# Altium schematic symbol library aiskylab-06IC-02Memory.SchLib: 21 symbols (part 2 of 4)
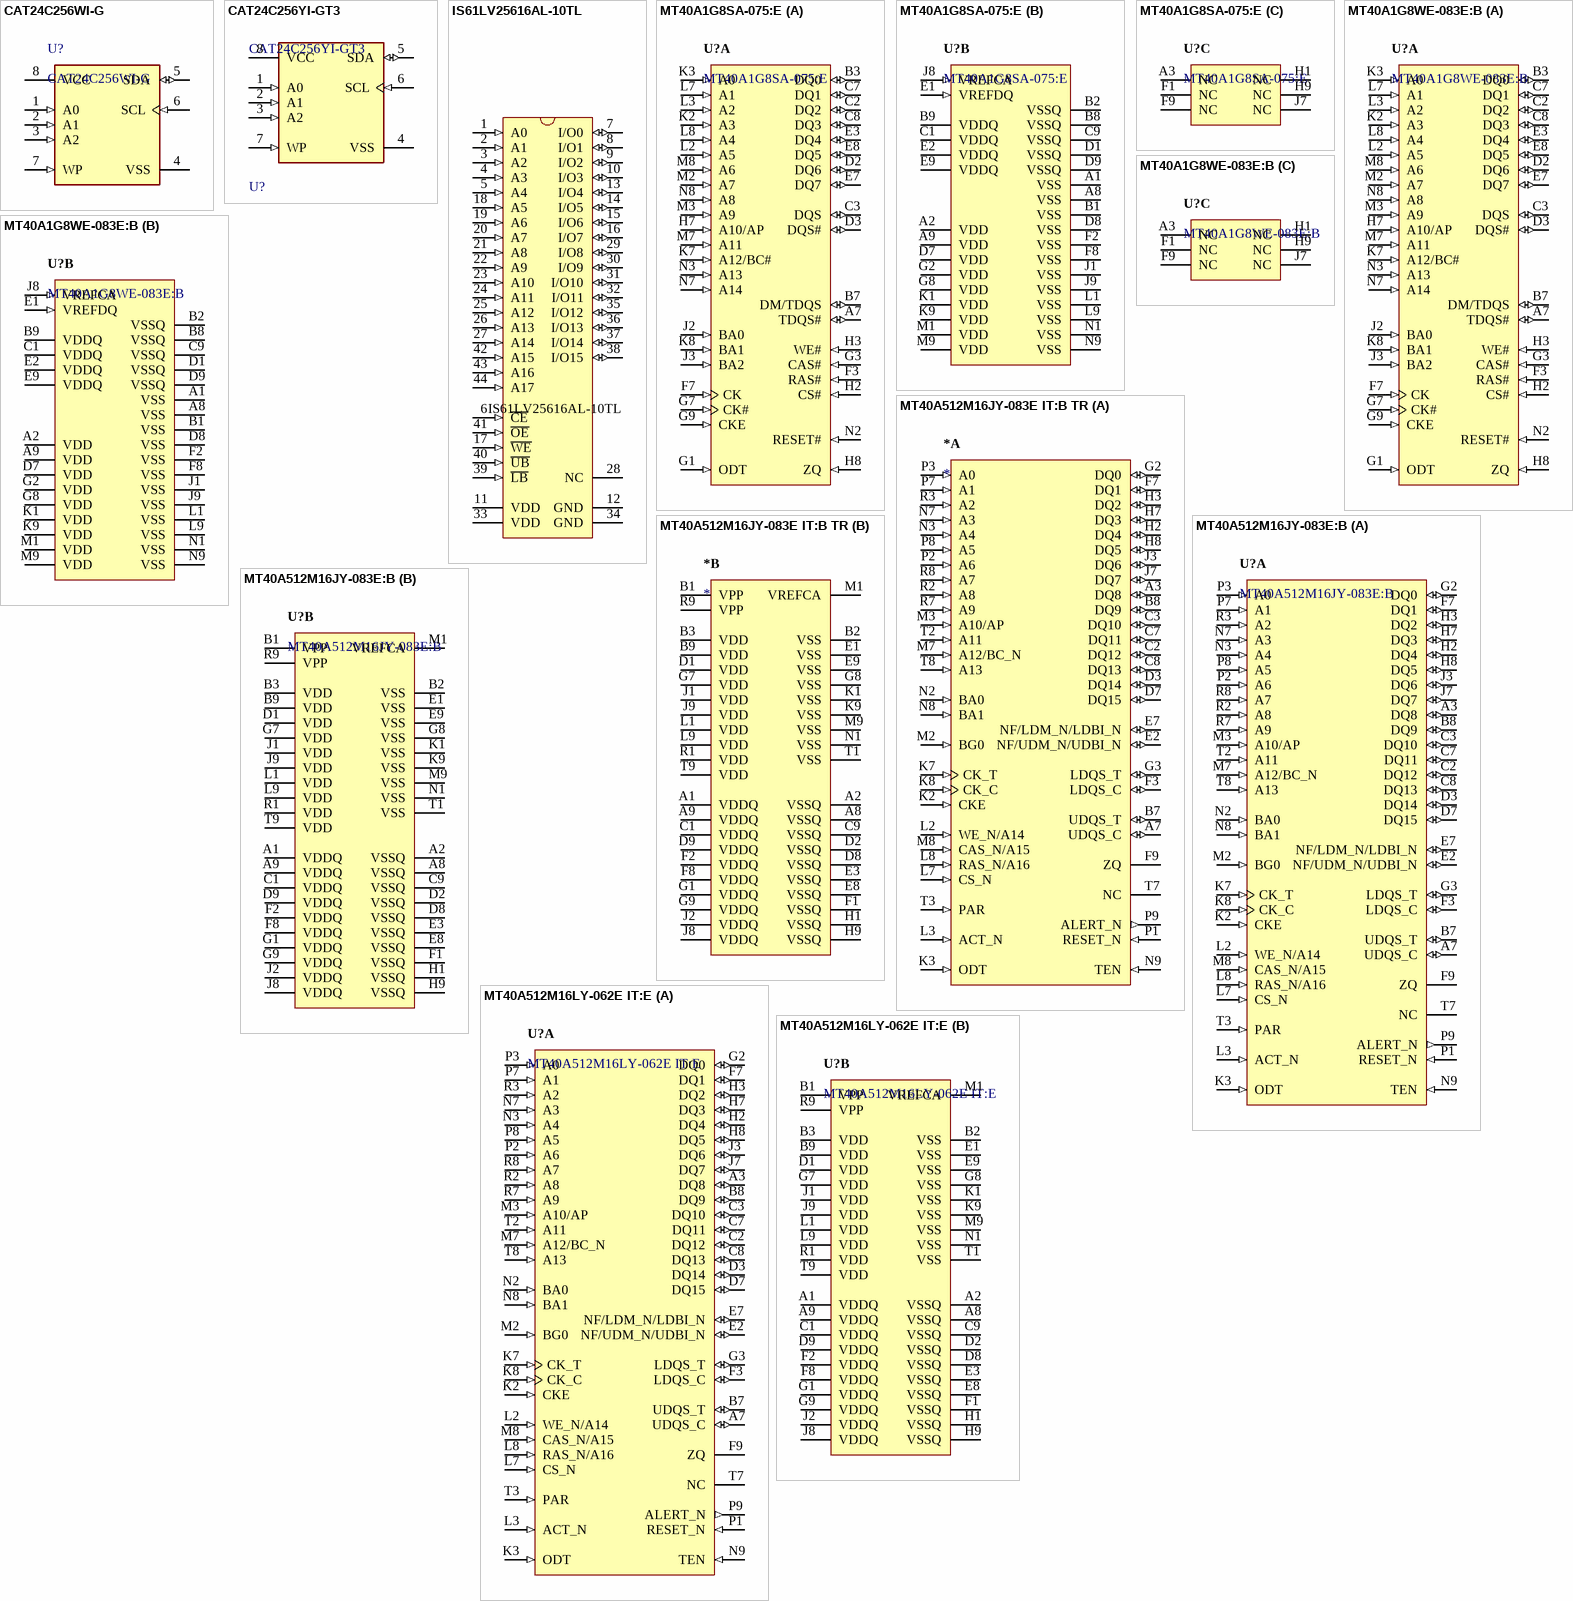
[diagram p2: symbols CAT24C256WI-G to MT40A512M16LY-062E IT:E]

## MT40A512M16JY-083E:B
designator U?
DRAM Chip DDR4 SDRAM 8G-Bit 512Mx16 1.2V 96-Pin F-BGA; Manufacturer: Micron Technology; Density: 8Gb; Data Bus Width: 16b; Address Bus Width: 17b; Access Time: 18ns; Supplier 1: Arrow Electronics; Manufacturer Part Number: MT40A512M16JY-083E:B; RoHS: Yes; Category: RAM; Mount: Surface Mount; Case/Package: BGA; Number of Pins: 96; Contact Plating: Copper,Tin,Silver; Min Operating Temperature: 0°C; Max Operating Temperature: 95°C; Operating Supply Voltage: 1.2V; RoHS Compliant: Yes; ComponentLink1URL: https://www.micron.com/~/media/documents/products/data-sheet/dram/ddr4/8gb_ddr4_sdram.pdf?src-supplier=Avnet+Asia; ComponentLink1Description: https://www.micron.com/~/media/documents/products/data-sheet/dram/ddr4/8gb_ddr4_sdram.pdf?src-supplier=Avnet+Asia; Supplier Part Number 1: MT40A512M16JY-083E:B; Supplier: JLC; SupplierPartNumber: C139548; Price: 57.042; ComponentLink2Description: Datasheet; ComponentLink2URL: https://atta.szlcsc.com/upload/public/pdf/source/20171030/C139548_15093665016811068217.pdf
part A pins: A3 DQ8 (io) "Data input/output: Bidirectional data bus. DQ represents DQ[3:0], DQ[7:0], and DQ[15:0] for the x4, x8, and x16 configurations, respectively. If write CRC is enabled via mode register, the write CRC code is added at the end (See Datasheet)", A7 UDQS_C (io) "Data strobe: Output with READ data, input with WRITE data. Edge-aligned with READ data, centered-aligned with WRITE data. For the x16, DQSL corresponds to the data on DQ[7:0]; DQSU corresponds to the data on DQ[15:8]. For (See Datasheet)", B7 UDQS_T (io) "Data strobe: Output with READ data, input with WRITE data. Edge-aligned with READ data, centered-aligned with WRITE data. For the x16, DQSL corresponds to the data on DQ[7:0]; DQSU corresponds to the data on DQ[15:8]. For (See Datasheet)", B8 DQ9 (io) "Data input/output: Bidirectional data bus. DQ represents DQ[3:0], DQ[7:0], and DQ[15:0] for the x4, x8, and x16 configurations, respectively. If write CRC is enabled via mode register, the write CRC code is added at the end (See Datasheet)", C2 DQ12 (io) "Data input/output: Bidirectional data bus. DQ represents DQ[3:0], DQ[7:0], and DQ[15:0] for the x4, x8, and x16 configurations, respectively. If write CRC is enabled via mode register, the write CRC code is added at the end (See Datasheet)", C3 DQ10 (io) "Data input/output: Bidirectional data bus. DQ represents DQ[3:0], DQ[7:0], and DQ[15:0] for the x4, x8, and x16 configurations, respectively. If write CRC is enabled via mode register, the write CRC code is added at the end (See Datasheet)", C7 DQ11 (io) "Data input/output: Bidirectional data bus. DQ represents DQ[3:0], DQ[7:0], and DQ[15:0] for the x4, x8, and x16 configurations, respectively. If write CRC is enabled via mode register, the write CRC code is added at the end (See Datasheet)", C8 DQ13 (io) "Data input/output: Bidirectional data bus. DQ represents DQ[3:0], DQ[7:0], and DQ[15:0] for the x4, x8, and x16 configurations, respectively. If write CRC is enabled via mode register, the write CRC code is added at the end (See Datasheet)", D3 DQ14 (io) "Data input/output: Bidirectional data bus. DQ represents DQ[3:0], DQ[7:0], and DQ[15:0] for the x4, x8, and x16 configurations, respectively. If write CRC is enabled via mode register, the write CRC code is added at the end (See Datasheet)", D7 DQ15 (io) "Data input/output: Bidirectional data bus. DQ represents DQ[3:0], DQ[7:0], and DQ[15:0] for the x4, x8, and x16 configurations, respectively. If write CRC is enabled via mode register, the write CRC code is added at the end (See Datasheet)", E2 NF/UDM_N/UDBI_N (io), E7 NF/LDM_N/LDBI_N (io), F3 LDQS_C (io) "Data strobe: Output with READ data, input with WRITE data. Edge-aligned with READ data, centered-aligned with WRITE data. For the x16, DQSL corresponds to the data on DQ[7:0]; DQSU corresponds to the data on DQ[15:8]. For (See Datasheet)", F7 DQ1 (io) "Data input/output: Bidirectional data bus. DQ represents DQ[3:0], DQ[7:0], and DQ[15:0] for the x4, x8, and x16 configurations, respectively. If write CRC is enabled via mode register, the write CRC code is added at the end (See Datasheet)", F9 ZQ "Reference ball for ZQ calibration: This ball is tied to an external 240ohm resistor(RZQ), which is tied to VSSQ.", G2 DQ0 (io) "Data input/output: Bidirectional data bus. DQ represents DQ[3:0], DQ[7:0], and DQ[15:0] for the x4, x8, and x16 configurations, respectively. If write CRC is enabled via mode register, the write CRC code is added at the end (See Datasheet)", G3 LDQS_T (io) "Data strobe: Output with READ data, input with WRITE data. Edge-aligned with READ data, centered-aligned with WRITE data. For the x16, DQSL corresponds to the data on DQ[7:0]; DQSU corresponds to the data on DQ[15:8]. For (See Datasheet)", H2 DQ4 (io) "Data input/output: Bidirectional data bus. DQ represents DQ[3:0], DQ[7:0], and DQ[15:0] for the x4, x8, and x16 configurations, respectively. If write CRC is enabled via mode register, the write CRC code is added at the end (See Datasheet)", H3 DQ2 (io) "Data input/output: Bidirectional data bus. DQ represents DQ[3:0], DQ[7:0], and DQ[15:0] for the x4, x8, and x16 configurations, respectively. If write CRC is enabled via mode register, the write CRC code is added at the end (See Datasheet)", H7 DQ3 (io) "Data input/output: Bidirectional data bus. DQ represents DQ[3:0], DQ[7:0], and DQ[15:0] for the x4, x8, and x16 configurations, respectively. If write CRC is enabled via mode register, the write CRC code is added at the end (See Datasheet)", H8 DQ5 (io) "Data input/output: Bidirectional data bus. DQ represents DQ[3:0], DQ[7:0], and DQ[15:0] for the x4, x8, and x16 configurations, respectively. If write CRC is enabled via mode register, the write CRC code is added at the end (See Datasheet)", J3 DQ6 (io) "Data input/output: Bidirectional data bus. DQ represents DQ[3:0], DQ[7:0], and DQ[15:0] for the x4, x8, and x16 configurations, respectively. If write CRC is enabled via mode register, the write CRC code is added at the end (See Datasheet)", J7 DQ7 (io) "Data input/output: Bidirectional data bus. DQ represents DQ[3:0], DQ[7:0], and DQ[15:0] for the x4, x8, and x16 configurations, respectively. If write CRC is enabled via mode register, the write CRC code is added at the end (See Datasheet)", K2 CKE (in) "Clock enable: CKE HIGH activates and CKE LOW deactivates the internal clock signals, device input buffers, and output drivers. Taking CKE LOW provides PRECHARGE POWER-DOWN and SELF REFRESH operations (all banks idle), or (See Datasheet)", K3 ODT (in) "On-die termination: ODT (registered HIGH) enables termination resistance internal to the DDR4 SDRAM. When enabled, ODT (RTT) is applied only to each DQ, DQS_t, DQS_c, DM_n/DBI_n/TDQS_t, and TDQS_c signal for the x4 and x8 (See Datasheet)", K7 CK_T (in) "Clock: Differential clock input. All address, command, and control input signals are sampled on the crossing of the positive edge of CK_t and the negative edge of CK_c.", K8 CK_C (in) "Clock: Differential clock input. All address, command, and control input signals are sampled on the crossing of the positive edge of CK_t and the negative edge of CK_c.", L2 WE_N/A14 (in), L3 ACT_N (in) "Command input: ACT_n indicates an ACTIVATE command. When ACT_n (along with CS_n) is LOW, the input pins RAS_n/A16, CAS_n/A15, and WE_n/A14 are treated as row address inputs for the ACTIVATE command. When ACT_n is HIGH (along (See Datasheet)", L7 CS_N (in) "Chip select: All commands are masked when CS_n is registered HIGH. CS_n provides for external rank selection on systems with multiple ranks. CS_n is considered part of the command code.", L8 RAS_N/A16 (in), M2 BG0 (in) "Bank group address input: Define the bank group to which a REFRESH, ACTIVATE, READ, WRITE, or PRECHARGE command is being applied. Also determines which mode register is to be accessed during a MODE REGISTER SET command. (See Datasheet)", M3 A10/AP (in), M7 A12/BC_N (in), M8 CAS_N/A15 (in), N2 BA0 (in) "Bank address input: Define the bank (within a bank group) to which an ACTIVATE, READ, WRITE, or PRECHARGE command is being applied. Also determines which mode register is to be accessed during a MODE REGISTER SET command.", N3 A4 (in) "Address input: Provide the row address for ACTIVATE commands and the column address for READ/WRITE commands to select one location out of the memory array in the respective bank. (A10/AP, A12/BC_n, WE_n/A14, CAS_n/A15, (See Datasheet)", N7 A3 (in) "Address input: Provide the row address for ACTIVATE commands and the column address for READ/WRITE commands to select one location out of the memory array in the respective bank. (A10/AP, A12/BC_n, WE_n/A14, CAS_n/A15, (See Datasheet)", N8 BA1 (in) "Bank address input: Define the bank (within a bank group) to which an ACTIVATE, READ, WRITE, or PRECHARGE command is being applied. Also determines which mode register is to be accessed during a MODE REGISTER SET command.", N9 TEN (in) "Connectivity test mode: TEN is active when HIGH and inactive when LOW. TEN must be LOW during normal operation. TEN is a CMOS rail-to-rail signal with DC HIGH and LOW at 80% and 20% of VDD (960mV for DC HIGH and 240mV for DC (See Datasheet)", P1 RESET_N (in) "Active LOW asynchronous reset: Reset is active when RESET_n is LOW, and inactive when RESET_n is HIGH. RESET_n must be HIGH during normal operation. RESET_n is a CMOS rail-to-rail signal with DC HIGH and LOW at 80% and 20% (See Datasheet)", P2 A6 (in) "Address input: Provide the row address for ACTIVATE commands and the column address for READ/WRITE commands to select one location out of the memory array in the respective bank. (A10/AP, A12/BC_n, WE_n/A14, CAS_n/A15, (See Datasheet)", P3 A0 (in) "Address input: Provide the row address for ACTIVATE commands and the column address for READ/WRITE commands to select one location out of the memory array in the respective bank. (A10/AP, A12/BC_n, WE_n/A14, CAS_n/A15, (See Datasheet)", P7 A1 (in) "Address input: Provide the row address for ACTIVATE commands and the column address for READ/WRITE commands to select one location out of the memory array in the respective bank. (A10/AP, A12/BC_n, WE_n/A14, CAS_n/A15, (See Datasheet)", P8 A5 (in) "Address input: Provide the row address for ACTIVATE commands and the column address for READ/WRITE commands to select one location out of the memory array in the respective bank. (A10/AP, A12/BC_n, WE_n/A14, CAS_n/A15, (See Datasheet)", P9 ALERT_N (out) "Alert output: This signal allows the DRAM to indicate to the system's memory controller that a specific alert or event has occurred. Alerts will include the command/address parity error and the CRC data error when either of (See Datasheet)", R2 A8 (in) "Address input: Provide the row address for ACTIVATE commands and the column address for READ/WRITE commands to select one location out of the memory array in the respective bank. (A10/AP, A12/BC_n, WE_n/A14, CAS_n/A15, (See Datasheet)", R3 A2 (in) "Address input: Provide the row address for ACTIVATE commands and the column address for READ/WRITE commands to select one location out of the memory array in the respective bank. (A10/AP, A12/BC_n, WE_n/A14, CAS_n/A15, (See Datasheet)", R7 A9 (in) "Address input: Provide the row address for ACTIVATE commands and the column address for READ/WRITE commands to select one location out of the memory array in the respective bank. (A10/AP, A12/BC_n, WE_n/A14, CAS_n/A15, (See Datasheet)", R8 A7 (in) "Address input: Provide the row address for ACTIVATE commands and the column address for READ/WRITE commands to select one location out of the memory array in the respective bank. (A10/AP, A12/BC_n, WE_n/A14, CAS_n/A15, (See Datasheet)", T2 A11 (in) "Address input: Provide the row address for ACTIVATE commands and the column address for READ/WRITE commands to select one location out of the memory array in the respective bank. (A10/AP, A12/BC_n, WE_n/A14, CAS_n/A15, (See Datasheet)", T3 PAR (in) "Parity for command and address: This function can be enabled or disabled via the mode register. When enabled, the parity signal covers all command and address inputs, including ACT_n, RAS_n/A16, CAS_n/A15, WE_n/A14, A[17:0], (See Datasheet)", T7 NC "No connect: No internal electrical connection is present.", T8 A13 (in) "Address input: Provide the row address for ACTIVATE commands and the column address for READ/WRITE commands to select one location out of the memory array in the respective bank. (A10/AP, A12/BC_n, WE_n/A14, CAS_n/A15, (See Datasheet)"
part B pins: A1 VDDQ (power) "DQ power supply: 1.2V +/-0.060V.", A2 VSSQ (power) "DQ ground.", A8 VSSQ (power) "DQ ground.", A9 VDDQ (power) "DQ power supply: 1.2V +/-0.060V.", B1 VPP (power) "DRAM activating power supply: 2.5V -0.125V/+0.250V.", B2 VSS (power) "Ground.", B3 VDD (power) "Power supply: 1.2V +/-0.060V.", B9 VDD (power) "Power supply: 1.2V +/-0.060V.", C1 VDDQ (power) "DQ power supply: 1.2V +/-0.060V.", C9 VSSQ (power) "DQ ground.", D1 VDD (power) "Power supply: 1.2V +/-0.060V.", D2 VSSQ (power) "DQ ground.", D8 VSSQ (power) "DQ ground.", D9 VDDQ (power) "DQ power supply: 1.2V +/-0.060V.", E1 VSS (power) "Ground.", E3 VSSQ (power) "DQ ground.", E8 VSSQ (power) "DQ ground.", E9 VSS (power) "Ground.", F1 VSSQ (power) "DQ ground.", F2 VDDQ (power) "DQ power supply: 1.2V +/-0.060V.", F8 VDDQ (power) "DQ power supply: 1.2V +/-0.060V.", G1 VDDQ (power) "DQ power supply: 1.2V +/-0.060V.", G7 VDD (power) "Power supply: 1.2V +/-0.060V.", G8 VSS (power) "Ground.", G9 VDDQ (power) "DQ power supply: 1.2V +/-0.060V.", H1 VSSQ (power) "DQ ground.", H9 VSSQ (power) "DQ ground.", J1 VDD (power) "Power supply: 1.2V +/-0.060V.", J2 VDDQ (power) "DQ power supply: 1.2V +/-0.060V.", J8 VDDQ (power) "DQ power supply: 1.2V +/-0.060V.", J9 VDD (power) "Power supply: 1.2V +/-0.060V.", K1 VSS (power) "Ground.", K9 VSS (power) "Ground.", L1 VDD (power) "Power supply: 1.2V +/-0.060V.", L9 VDD (power) "Power supply: 1.2V +/-0.060V.", M1 VREFCA "Reference voltage for control, command, and address pins.", M9 VSS (power) "Ground.", N1 VSS (power) "Ground.", R1 VDD (power) "Power supply: 1.2V +/-0.060V.", R9 VPP (power) "DRAM activating power supply: 2.5V -0.125V/+0.250V.", T1 VSS (power) "Ground.", T9 VDD (power) "Power supply: 1.2V +/-0.060V."

## MT40A512M16LY-062E IT:E
designator U?
DRAM Chip DDR4 SDRAM 8Gbit 512M X 16 1.2V 96-Pin FBGA; Manufacturer: Micron Technology; Memory Type: Volatile; Memory Size: 8Gb; Frequency: 1.6GHz; Supplier 1: Avnet; Manufacturer Part Number: MT40A512M16LY-062E IT:E; RoHS: No; Stock 1: 504; Pricing 1: 1=14.97000, 10=13.78000, 25=13.50000, 50=13.45000, 100=12.06000, 250=11.70000 (USD); Min Operating Temperature: -40°C; Max Operating Temperature: 95°C; RoHS Compliant: No; ComponentLink1URL: http://www.farnell.com/datasheets/2712421.pdf?src-supplier=Farnell; ComponentLink1Description: http://www.farnell.com/datasheets/2712421.pdf?src-supplier=Farnell; ComponentLink2URL: https://www.micron.com/~/media/documents/products/data-sheet/dram/ddr4/8gb_ddr4_sdram.pdf?src-supplier=Digi-Key; ComponentLink2Description: https://www.micron.com/~/media/documents/products/data-sheet/dram/ddr4/8gb_ddr4_sdram.pdf?src-supplier=Digi-Key; Supplier Part Number 1: 80AH7988; ComponentLink3Description: Datasheet; ComponentLink3URL: https://atta.szlcsc.com/upload/public/pdf/source/20190909/C426886_5B0106D3C207821AB2C7C6D1F5168E73.pdf; Supplier: JLC; Supplier Part Number: C426886; Price: 81.97
footprint MICT-LY-96_A
part A pins: A3 DQ8 (io) "Data input/output: Bidirectional data bus. DQ represents DQ[3:0], DQ[7:0], and DQ[15:0] for the x4, x8, and x16 configurations, respectively. If write CRC is enabled via mode register, the write CRC code is added at the end (See Datasheet)", A7 UDQS_C (io) "Data strobe: Output with READ data, input with WRITE data. Edge-aligned with READ data, centered-aligned with WRITE data. For the x16, DQSL corresponds to the data on DQ[7:0]; DQSU corresponds to the data on DQ[15:8]. For (See Datasheet)", B7 UDQS_T (io) "Data strobe: Output with READ data, input with WRITE data. Edge-aligned with READ data, centered-aligned with WRITE data. For the x16, DQSL corresponds to the data on DQ[7:0]; DQSU corresponds to the data on DQ[15:8]. For (See Datasheet)", B8 DQ9 (io) "Data input/output: Bidirectional data bus. DQ represents DQ[3:0], DQ[7:0], and DQ[15:0] for the x4, x8, and x16 configurations, respectively. If write CRC is enabled via mode register, the write CRC code is added at the end (See Datasheet)", C2 DQ12 (io) "Data input/output: Bidirectional data bus. DQ represents DQ[3:0], DQ[7:0], and DQ[15:0] for the x4, x8, and x16 configurations, respectively. If write CRC is enabled via mode register, the write CRC code is added at the end (See Datasheet)", C3 DQ10 (io) "Data input/output: Bidirectional data bus. DQ represents DQ[3:0], DQ[7:0], and DQ[15:0] for the x4, x8, and x16 configurations, respectively. If write CRC is enabled via mode register, the write CRC code is added at the end (See Datasheet)", C7 DQ11 (io) "Data input/output: Bidirectional data bus. DQ represents DQ[3:0], DQ[7:0], and DQ[15:0] for the x4, x8, and x16 configurations, respectively. If write CRC is enabled via mode register, the write CRC code is added at the end (See Datasheet)", C8 DQ13 (io) "Data input/output: Bidirectional data bus. DQ represents DQ[3:0], DQ[7:0], and DQ[15:0] for the x4, x8, and x16 configurations, respectively. If write CRC is enabled via mode register, the write CRC code is added at the end (See Datasheet)", D3 DQ14 (io) "Data input/output: Bidirectional data bus. DQ represents DQ[3:0], DQ[7:0], and DQ[15:0] for the x4, x8, and x16 configurations, respectively. If write CRC is enabled via mode register, the write CRC code is added at the end (See Datasheet)", D7 DQ15 (io) "Data input/output: Bidirectional data bus. DQ represents DQ[3:0], DQ[7:0], and DQ[15:0] for the x4, x8, and x16 configurations, respectively. If write CRC is enabled via mode register, the write CRC code is added at the end (See Datasheet)", E2 NF/UDM_N/UDBI_N (io), E7 NF/LDM_N/LDBI_N (io), F3 LDQS_C (io) "Data strobe: Output with READ data, input with WRITE data. Edge-aligned with READ data, centered-aligned with WRITE data. For the x16, DQSL corresponds to the data on DQ[7:0]; DQSU corresponds to the data on DQ[15:8]. For (See Datasheet)", F7 DQ1 (io) "Data input/output: Bidirectional data bus. DQ represents DQ[3:0], DQ[7:0], and DQ[15:0] for the x4, x8, and x16 configurations, respectively. If write CRC is enabled via mode register, the write CRC code is added at the end (See Datasheet)", F9 ZQ "Reference ball for ZQ calibration: This ball is tied to an external 240ohm resistor(RZQ), which is tied to VSSQ.", G2 DQ0 (io) "Data input/output: Bidirectional data bus. DQ represents DQ[3:0], DQ[7:0], and DQ[15:0] for the x4, x8, and x16 configurations, respectively. If write CRC is enabled via mode register, the write CRC code is added at the end (See Datasheet)", G3 LDQS_T (io) "Data strobe: Output with READ data, input with WRITE data. Edge-aligned with READ data, centered-aligned with WRITE data. For the x16, DQSL corresponds to the data on DQ[7:0]; DQSU corresponds to the data on DQ[15:8]. For (See Datasheet)", H2 DQ4 (io) "Data input/output: Bidirectional data bus. DQ represents DQ[3:0], DQ[7:0], and DQ[15:0] for the x4, x8, and x16 configurations, respectively. If write CRC is enabled via mode register, the write CRC code is added at the end (See Datasheet)", H3 DQ2 (io) "Data input/output: Bidirectional data bus. DQ represents DQ[3:0], DQ[7:0], and DQ[15:0] for the x4, x8, and x16 configurations, respectively. If write CRC is enabled via mode register, the write CRC code is added at the end (See Datasheet)", H7 DQ3 (io) "Data input/output: Bidirectional data bus. DQ represents DQ[3:0], DQ[7:0], and DQ[15:0] for the x4, x8, and x16 configurations, respectively. If write CRC is enabled via mode register, the write CRC code is added at the end (See Datasheet)", H8 DQ5 (io) "Data input/output: Bidirectional data bus. DQ represents DQ[3:0], DQ[7:0], and DQ[15:0] for the x4, x8, and x16 configurations, respectively. If write CRC is enabled via mode register, the write CRC code is added at the end (See Datasheet)", J3 DQ6 (io) "Data input/output: Bidirectional data bus. DQ represents DQ[3:0], DQ[7:0], and DQ[15:0] for the x4, x8, and x16 configurations, respectively. If write CRC is enabled via mode register, the write CRC code is added at the end (See Datasheet)", J7 DQ7 (io) "Data input/output: Bidirectional data bus. DQ represents DQ[3:0], DQ[7:0], and DQ[15:0] for the x4, x8, and x16 configurations, respectively. If write CRC is enabled via mode register, the write CRC code is added at the end (See Datasheet)", K2 CKE (in) "Clock enable: CKE HIGH activates and CKE LOW deactivates the internal clock signals, device input buffers, and output drivers. Taking CKE LOW provides PRECHARGE POWER-DOWN and SELF REFRESH operations (all banks idle), or (See Datasheet)", K3 ODT (in) "On-die termination: ODT (registered HIGH) enables termination resistance internal to the DDR4 SDRAM. When enabled, ODT (RTT) is applied only to each DQ, DQS_t, DQS_c, DM_n/DBI_n/TDQS_t, and TDQS_c signal for the x4 and x8 (See Datasheet)", K7 CK_T (in) "Clock: Differential clock input. All address, command, and control input signals are sampled on the crossing of the positive edge of CK_t and the negative edge of CK_c.", K8 CK_C (in) "Clock: Differential clock input. All address, command, and control input signals are sampled on the crossing of the positive edge of CK_t and the negative edge of CK_c.", L2 WE_N/A14 (in), L3 ACT_N (in) "Command input: ACT_n indicates an ACTIVATE command. When ACT_n (along with CS_n) is LOW, the input pins RAS_n/A16, CAS_n/A15, and WE_n/A14 are treated as row address inputs for the ACTIVATE command. When ACT_n is HIGH (along (See Datasheet)", L7 CS_N (in) "Chip select: All commands are masked when CS_n is registered HIGH. CS_n provides for external rank selection on systems with multiple ranks. CS_n is considered part of the command code.", L8 RAS_N/A16 (in), M2 BG0 (in) "Bank group address input: Define the bank group to which a REFRESH, ACTIVATE, READ, WRITE, or PRECHARGE command is being applied. Also determines which mode register is to be accessed during a MODE REGISTER SET command. (See Datasheet)", M3 A10/AP (in), M7 A12/BC_N (in), M8 CAS_N/A15 (in), N2 BA0 (in) "Bank address input: Define the bank (within a bank group) to which an ACTIVATE, READ, WRITE, or PRECHARGE command is being applied. Also determines which mode register is to be accessed during a MODE REGISTER SET command.", N3 A4 (in) "Address input: Provide the row address for ACTIVATE commands and the column address for READ/WRITE commands to select one location out of the memory array in the respective bank. (A10/AP, A12/BC_n, WE_n/A14, CAS_n/A15, (See Datasheet)", N7 A3 (in) "Address input: Provide the row address for ACTIVATE commands and the column address for READ/WRITE commands to select one location out of the memory array in the respective bank. (A10/AP, A12/BC_n, WE_n/A14, CAS_n/A15, (See Datasheet)", N8 BA1 (in) "Bank address input: Define the bank (within a bank group) to which an ACTIVATE, READ, WRITE, or PRECHARGE command is being applied. Also determines which mode register is to be accessed during a MODE REGISTER SET command.", N9 TEN (in) "Connectivity test mode: TEN is active when HIGH and inactive when LOW. TEN must be LOW during normal operation. TEN is a CMOS rail-to-rail signal with DC HIGH and LOW at 80% and 20% of VDD (960mV for DC HIGH and 240mV for DC (See Datasheet)", P1 RESET_N (in) "Active LOW asynchronous reset: Reset is active when RESET_n is LOW, and inactive when RESET_n is HIGH. RESET_n must be HIGH during normal operation. RESET_n is a CMOS rail-to-rail signal with DC HIGH and LOW at 80% and 20% (See Datasheet)", P2 A6 (in) "Address input: Provide the row address for ACTIVATE commands and the column address for READ/WRITE commands to select one location out of the memory array in the respective bank. (A10/AP, A12/BC_n, WE_n/A14, CAS_n/A15, (See Datasheet)", P3 A0 (in) "Address input: Provide the row address for ACTIVATE commands and the column address for READ/WRITE commands to select one location out of the memory array in the respective bank. (A10/AP, A12/BC_n, WE_n/A14, CAS_n/A15, (See Datasheet)", P7 A1 (in) "Address input: Provide the row address for ACTIVATE commands and the column address for READ/WRITE commands to select one location out of the memory array in the respective bank. (A10/AP, A12/BC_n, WE_n/A14, CAS_n/A15, (See Datasheet)", P8 A5 (in) "Address input: Provide the row address for ACTIVATE commands and the column address for READ/WRITE commands to select one location out of the memory array in the respective bank. (A10/AP, A12/BC_n, WE_n/A14, CAS_n/A15, (See Datasheet)", P9 ALERT_N (out) "Alert output: This signal allows the DRAM to indicate to the system's memory controller that a specific alert or event has occurred. Alerts will include the command/address parity error and the CRC data error when either of (See Datasheet)", R2 A8 (in) "Address input: Provide the row address for ACTIVATE commands and the column address for READ/WRITE commands to select one location out of the memory array in the respective bank. (A10/AP, A12/BC_n, WE_n/A14, CAS_n/A15, (See Datasheet)", R3 A2 (in) "Address input: Provide the row address for ACTIVATE commands and the column address for READ/WRITE commands to select one location out of the memory array in the respective bank. (A10/AP, A12/BC_n, WE_n/A14, CAS_n/A15, (See Datasheet)", R7 A9 (in) "Address input: Provide the row address for ACTIVATE commands and the column address for READ/WRITE commands to select one location out of the memory array in the respective bank. (A10/AP, A12/BC_n, WE_n/A14, CAS_n/A15, (See Datasheet)", R8 A7 (in) "Address input: Provide the row address for ACTIVATE commands and the column address for READ/WRITE commands to select one location out of the memory array in the respective bank. (A10/AP, A12/BC_n, WE_n/A14, CAS_n/A15, (See Datasheet)", T2 A11 (in) "Address input: Provide the row address for ACTIVATE commands and the column address for READ/WRITE commands to select one location out of the memory array in the respective bank. (A10/AP, A12/BC_n, WE_n/A14, CAS_n/A15, (See Datasheet)", T3 PAR (in) "Parity for command and address: This function can be enabled or disabled via the mode register. When enabled, the parity signal covers all command and address inputs, including ACT_n, RAS_n/A16, CAS_n/A15, WE_n/A14, A[17:0], (See Datasheet)", T7 NC "No connect: No internal electrical connection is present.", T8 A13 (in) "Address input: Provide the row address for ACTIVATE commands and the column address for READ/WRITE commands to select one location out of the memory array in the respective bank. (A10/AP, A12/BC_n, WE_n/A14, CAS_n/A15, (See Datasheet)"
part B pins: A1 VDDQ (power) "DQ power supply: 1.2V +/-0.060V.", A2 VSSQ (power) "DQ ground.", A8 VSSQ (power) "DQ ground.", A9 VDDQ (power) "DQ power supply: 1.2V +/-0.060V.", B1 VPP (power) "DRAM activating power supply: 2.5V -0.125V/+0.250V.", B2 VSS (power) "Ground.", B3 VDD (power) "Power supply: 1.2V +/-0.060V.", B9 VDD (power) "Power supply: 1.2V +/-0.060V.", C1 VDDQ (power) "DQ power supply: 1.2V +/-0.060V.", C9 VSSQ (power) "DQ ground.", D1 VDD (power) "Power supply: 1.2V +/-0.060V.", D2 VSSQ (power) "DQ ground.", D8 VSSQ (power) "DQ ground.", D9 VDDQ (power) "DQ power supply: 1.2V +/-0.060V.", E1 VSS (power) "Ground.", E3 VSSQ (power) "DQ ground.", E8 VSSQ (power) "DQ ground.", E9 VSS (power) "Ground.", F1 VSSQ (power) "DQ ground.", F2 VDDQ (power) "DQ power supply: 1.2V +/-0.060V.", F8 VDDQ (power) "DQ power supply: 1.2V +/-0.060V.", G1 VDDQ (power) "DQ power supply: 1.2V +/-0.060V.", G7 VDD (power) "Power supply: 1.2V +/-0.060V.", G8 VSS (power) "Ground.", G9 VDDQ (power) "DQ power supply: 1.2V +/-0.060V.", H1 VSSQ (power) "DQ ground.", H9 VSSQ (power) "DQ ground.", J1 VDD (power) "Power supply: 1.2V +/-0.060V.", J2 VDDQ (power) "DQ power supply: 1.2V +/-0.060V.", J8 VDDQ (power) "DQ power supply: 1.2V +/-0.060V.", J9 VDD (power) "Power supply: 1.2V +/-0.060V.", K1 VSS (power) "Ground.", K9 VSS (power) "Ground.", L1 VDD (power) "Power supply: 1.2V +/-0.060V.", L9 VDD (power) "Power supply: 1.2V +/-0.060V.", M1 VREFCA "Reference voltage for control, command, and address pins.", M9 VSS (power) "Ground.", N1 VSS (power) "Ground.", R1 VDD (power) "Power supply: 1.2V +/-0.060V.", R9 VPP (power) "DRAM activating power supply: 2.5V -0.125V/+0.250V.", T1 VSS (power) "Ground.", T9 VDD (power) "Power supply: 1.2V +/-0.060V."

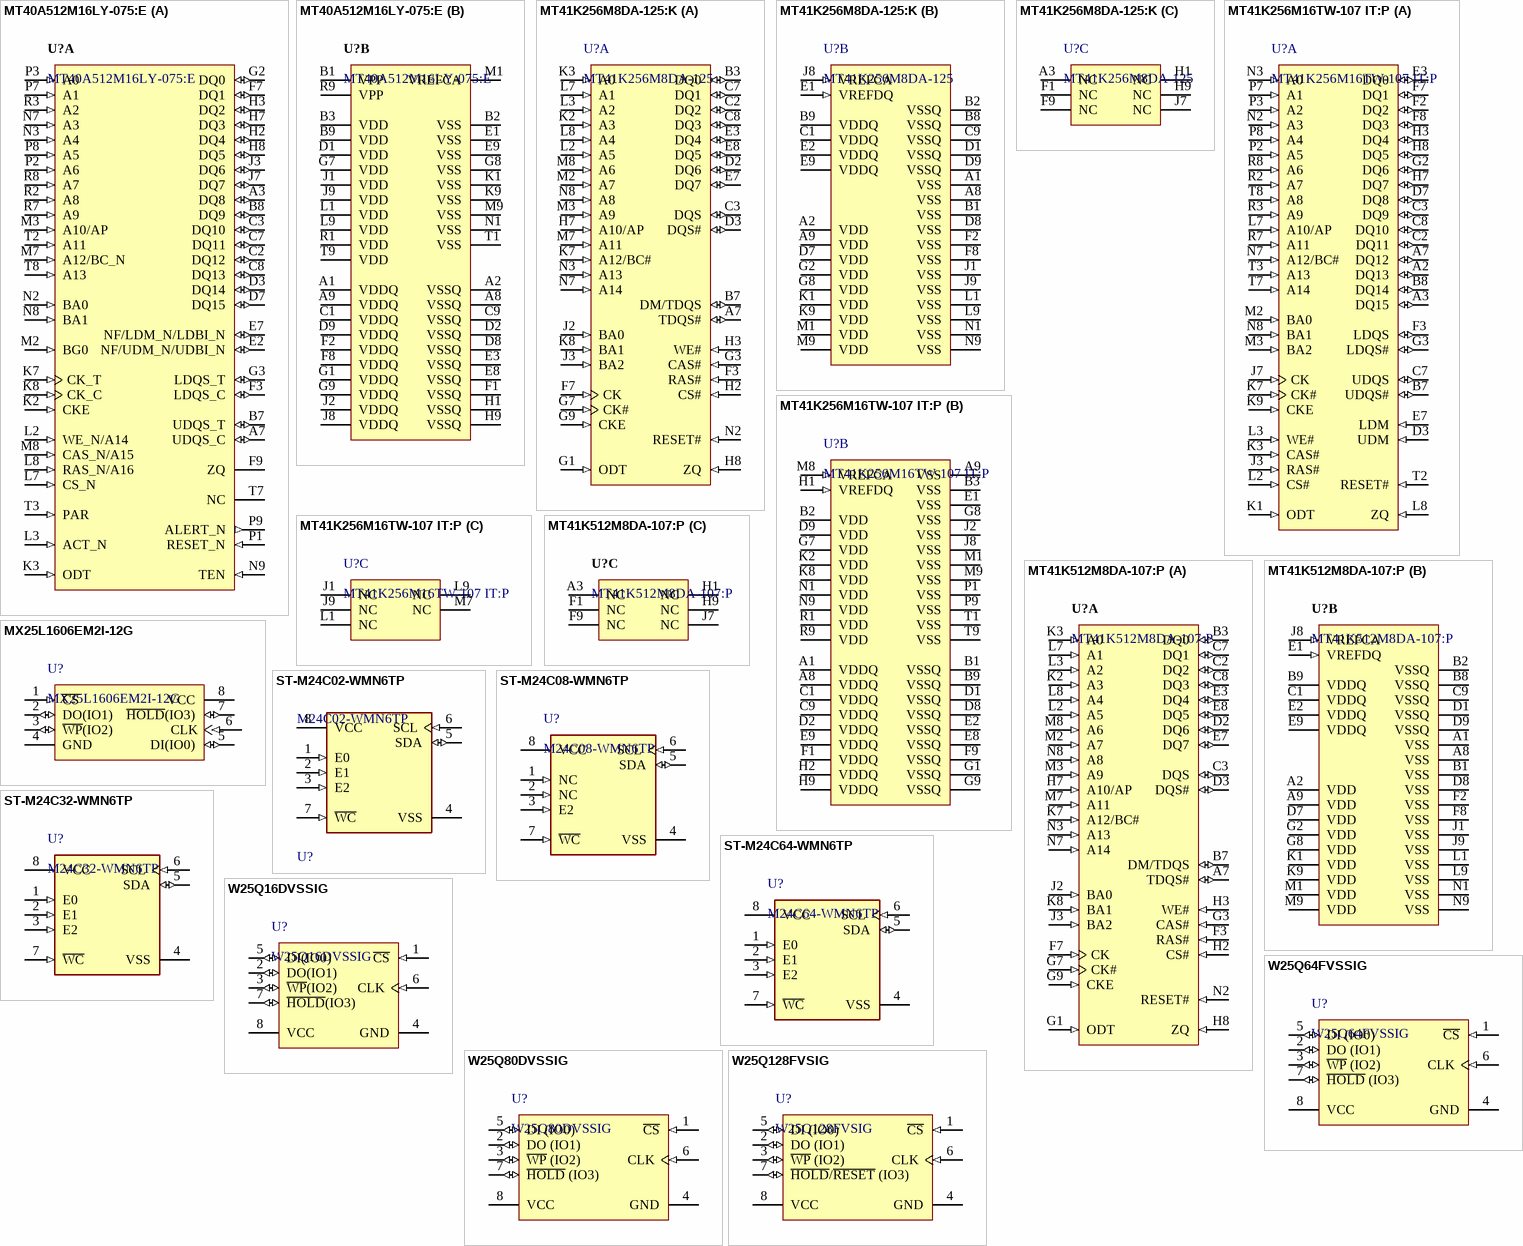
[diagram p1: symbols MT40A512M16LY-075:E to W25Q128FVSIG]

## MT40A512M16LY-075:E
designator U?
DRAM Chip DDR4 SDRAM 8Gbit 512Mx16 1.2V 96-Pin FBGA; Manufacturer: Micron Technology; Memory Type: Volatile; Memory Size: 8Gb; Frequency: 1.33GHz; Suppiler: JLC; Supplier 1: Avnet; Manufacturer Part Number: MT40A512M16LY-075:E; RoHS: Yes; Category: Memory; Stock 1: 400; Pricing 1: 1=12.40000, 10=11.42000, 25=11.18000, 50=11.14000, 100=10.00000, 250=9.70000 (USD); Min Operating Temperature: 0°C; Max Operating Temperature: 95°C; RoHS Compliant: Yes; ComponentLink1URL: https://www.micron.com/~/media/documents/products/data-sheet/dram/ddr4/8gb_ddr4_sdram.pdf?src-supplier=Digi-Key; ComponentLink1Description: https://www.micron.com/~/media/documents/products/data-sheet/dram/ddr4/8gb_ddr4_sdram.pdf?src-supplier=Digi-Key; Supplier Part Number 1: 83AH2723; SupplierPartNumber: C598779; ComponentLink2Description: Datasheet; ComponentLink2URL: https://atta.szlcsc.com/upload/public/pdf/source/20200825/C598779_D6A295F48414D4D093834D9E63006C82.pdf; Price: 43.86
footprint MICT-LY-96_A
part A pins: A3 DQ8 (io) "Data input/output: Bidirectional data bus. DQ represents DQ[3:0], DQ[7:0], and DQ[15:0] for the x4, x8, and x16 configurations, respectively. If write CRC is enabled via mode register, the write CRC code is added at the end (See Datasheet)", A7 UDQS_C (io) "Data strobe: Output with READ data, input with WRITE data. Edge-aligned with READ data, centered-aligned with WRITE data. For the x16, DQSL corresponds to the data on DQ[7:0]; DQSU corresponds to the data on DQ[15:8]. For (See Datasheet)", B7 UDQS_T (io) "Data strobe: Output with READ data, input with WRITE data. Edge-aligned with READ data, centered-aligned with WRITE data. For the x16, DQSL corresponds to the data on DQ[7:0]; DQSU corresponds to the data on DQ[15:8]. For (See Datasheet)", B8 DQ9 (io) "Data input/output: Bidirectional data bus. DQ represents DQ[3:0], DQ[7:0], and DQ[15:0] for the x4, x8, and x16 configurations, respectively. If write CRC is enabled via mode register, the write CRC code is added at the end (See Datasheet)", C2 DQ12 (io) "Data input/output: Bidirectional data bus. DQ represents DQ[3:0], DQ[7:0], and DQ[15:0] for the x4, x8, and x16 configurations, respectively. If write CRC is enabled via mode register, the write CRC code is added at the end (See Datasheet)", C3 DQ10 (io) "Data input/output: Bidirectional data bus. DQ represents DQ[3:0], DQ[7:0], and DQ[15:0] for the x4, x8, and x16 configurations, respectively. If write CRC is enabled via mode register, the write CRC code is added at the end (See Datasheet)", C7 DQ11 (io) "Data input/output: Bidirectional data bus. DQ represents DQ[3:0], DQ[7:0], and DQ[15:0] for the x4, x8, and x16 configurations, respectively. If write CRC is enabled via mode register, the write CRC code is added at the end (See Datasheet)", C8 DQ13 (io) "Data input/output: Bidirectional data bus. DQ represents DQ[3:0], DQ[7:0], and DQ[15:0] for the x4, x8, and x16 configurations, respectively. If write CRC is enabled via mode register, the write CRC code is added at the end (See Datasheet)", D3 DQ14 (io) "Data input/output: Bidirectional data bus. DQ represents DQ[3:0], DQ[7:0], and DQ[15:0] for the x4, x8, and x16 configurations, respectively. If write CRC is enabled via mode register, the write CRC code is added at the end (See Datasheet)", D7 DQ15 (io) "Data input/output: Bidirectional data bus. DQ represents DQ[3:0], DQ[7:0], and DQ[15:0] for the x4, x8, and x16 configurations, respectively. If write CRC is enabled via mode register, the write CRC code is added at the end (See Datasheet)", E2 NF/UDM_N/UDBI_N (io), E7 NF/LDM_N/LDBI_N (io), F3 LDQS_C (io) "Data strobe: Output with READ data, input with WRITE data. Edge-aligned with READ data, centered-aligned with WRITE data. For the x16, DQSL corresponds to the data on DQ[7:0]; DQSU corresponds to the data on DQ[15:8]. For (See Datasheet)", F7 DQ1 (io) "Data input/output: Bidirectional data bus. DQ represents DQ[3:0], DQ[7:0], and DQ[15:0] for the x4, x8, and x16 configurations, respectively. If write CRC is enabled via mode register, the write CRC code is added at the end (See Datasheet)", F9 ZQ "Reference ball for ZQ calibration: This ball is tied to an external 240ohm resistor(RZQ), which is tied to VSSQ.", G2 DQ0 (io) "Data input/output: Bidirectional data bus. DQ represents DQ[3:0], DQ[7:0], and DQ[15:0] for the x4, x8, and x16 configurations, respectively. If write CRC is enabled via mode register, the write CRC code is added at the end (See Datasheet)", G3 LDQS_T (io) "Data strobe: Output with READ data, input with WRITE data. Edge-aligned with READ data, centered-aligned with WRITE data. For the x16, DQSL corresponds to the data on DQ[7:0]; DQSU corresponds to the data on DQ[15:8]. For (See Datasheet)", H2 DQ4 (io) "Data input/output: Bidirectional data bus. DQ represents DQ[3:0], DQ[7:0], and DQ[15:0] for the x4, x8, and x16 configurations, respectively. If write CRC is enabled via mode register, the write CRC code is added at the end (See Datasheet)", H3 DQ2 (io) "Data input/output: Bidirectional data bus. DQ represents DQ[3:0], DQ[7:0], and DQ[15:0] for the x4, x8, and x16 configurations, respectively. If write CRC is enabled via mode register, the write CRC code is added at the end (See Datasheet)", H7 DQ3 (io) "Data input/output: Bidirectional data bus. DQ represents DQ[3:0], DQ[7:0], and DQ[15:0] for the x4, x8, and x16 configurations, respectively. If write CRC is enabled via mode register, the write CRC code is added at the end (See Datasheet)", H8 DQ5 (io) "Data input/output: Bidirectional data bus. DQ represents DQ[3:0], DQ[7:0], and DQ[15:0] for the x4, x8, and x16 configurations, respectively. If write CRC is enabled via mode register, the write CRC code is added at the end (See Datasheet)", J3 DQ6 (io) "Data input/output: Bidirectional data bus. DQ represents DQ[3:0], DQ[7:0], and DQ[15:0] for the x4, x8, and x16 configurations, respectively. If write CRC is enabled via mode register, the write CRC code is added at the end (See Datasheet)", J7 DQ7 (io) "Data input/output: Bidirectional data bus. DQ represents DQ[3:0], DQ[7:0], and DQ[15:0] for the x4, x8, and x16 configurations, respectively. If write CRC is enabled via mode register, the write CRC code is added at the end (See Datasheet)", K2 CKE (in) "Clock enable: CKE HIGH activates and CKE LOW deactivates the internal clock signals, device input buffers, and output drivers. Taking CKE LOW provides PRECHARGE POWER-DOWN and SELF REFRESH operations (all banks idle), or (See Datasheet)", K3 ODT (in) "On-die termination: ODT (registered HIGH) enables termination resistance internal to the DDR4 SDRAM. When enabled, ODT (RTT) is applied only to each DQ, DQS_t, DQS_c, DM_n/DBI_n/TDQS_t, and TDQS_c signal for the x4 and x8 (See Datasheet)", K7 CK_T (in) "Clock: Differential clock input. All address, command, and control input signals are sampled on the crossing of the positive edge of CK_t and the negative edge of CK_c.", K8 CK_C (in) "Clock: Differential clock input. All address, command, and control input signals are sampled on the crossing of the positive edge of CK_t and the negative edge of CK_c.", L2 WE_N/A14 (in), L3 ACT_N (in) "Command input: ACT_n indicates an ACTIVATE command. When ACT_n (along with CS_n) is LOW, the input pins RAS_n/A16, CAS_n/A15, and WE_n/A14 are treated as row address inputs for the ACTIVATE command. When ACT_n is HIGH (along (See Datasheet)", L7 CS_N (in) "Chip select: All commands are masked when CS_n is registered HIGH. CS_n provides for external rank selection on systems with multiple ranks. CS_n is considered part of the command code.", L8 RAS_N/A16 (in), M2 BG0 (in) "Bank group address input: Define the bank group to which a REFRESH, ACTIVATE, READ, WRITE, or PRECHARGE command is being applied. Also determines which mode register is to be accessed during a MODE REGISTER SET command. (See Datasheet)", M3 A10/AP (in), M7 A12/BC_N (in), M8 CAS_N/A15 (in), N2 BA0 (in) "Bank address input: Define the bank (within a bank group) to which an ACTIVATE, READ, WRITE, or PRECHARGE command is being applied. Also determines which mode register is to be accessed during a MODE REGISTER SET command.", N3 A4 (in) "Address input: Provide the row address for ACTIVATE commands and the column address for READ/WRITE commands to select one location out of the memory array in the respective bank. (A10/AP, A12/BC_n, WE_n/A14, CAS_n/A15, (See Datasheet)", N7 A3 (in) "Address input: Provide the row address for ACTIVATE commands and the column address for READ/WRITE commands to select one location out of the memory array in the respective bank. (A10/AP, A12/BC_n, WE_n/A14, CAS_n/A15, (See Datasheet)", N8 BA1 (in) "Bank address input: Define the bank (within a bank group) to which an ACTIVATE, READ, WRITE, or PRECHARGE command is being applied. Also determines which mode register is to be accessed during a MODE REGISTER SET command.", N9 TEN (in) "Connectivity test mode: TEN is active when HIGH and inactive when LOW. TEN must be LOW during normal operation. TEN is a CMOS rail-to-rail signal with DC HIGH and LOW at 80% and 20% of VDD (960mV for DC HIGH and 240mV for DC (See Datasheet)", P1 RESET_N (in) "Active LOW asynchronous reset: Reset is active when RESET_n is LOW, and inactive when RESET_n is HIGH. RESET_n must be HIGH during normal operation. RESET_n is a CMOS rail-to-rail signal with DC HIGH and LOW at 80% and 20% (See Datasheet)", P2 A6 (in) "Address input: Provide the row address for ACTIVATE commands and the column address for READ/WRITE commands to select one location out of the memory array in the respective bank. (A10/AP, A12/BC_n, WE_n/A14, CAS_n/A15, (See Datasheet)", P3 A0 (in) "Address input: Provide the row address for ACTIVATE commands and the column address for READ/WRITE commands to select one location out of the memory array in the respective bank. (A10/AP, A12/BC_n, WE_n/A14, CAS_n/A15, (See Datasheet)", P7 A1 (in) "Address input: Provide the row address for ACTIVATE commands and the column address for READ/WRITE commands to select one location out of the memory array in the respective bank. (A10/AP, A12/BC_n, WE_n/A14, CAS_n/A15, (See Datasheet)", P8 A5 (in) "Address input: Provide the row address for ACTIVATE commands and the column address for READ/WRITE commands to select one location out of the memory array in the respective bank. (A10/AP, A12/BC_n, WE_n/A14, CAS_n/A15, (See Datasheet)", P9 ALERT_N (out) "Alert output: This signal allows the DRAM to indicate to the system's memory controller that a specific alert or event has occurred. Alerts will include the command/address parity error and the CRC data error when either of (See Datasheet)", R2 A8 (in) "Address input: Provide the row address for ACTIVATE commands and the column address for READ/WRITE commands to select one location out of the memory array in the respective bank. (A10/AP, A12/BC_n, WE_n/A14, CAS_n/A15, (See Datasheet)", R3 A2 (in) "Address input: Provide the row address for ACTIVATE commands and the column address for READ/WRITE commands to select one location out of the memory array in the respective bank. (A10/AP, A12/BC_n, WE_n/A14, CAS_n/A15, (See Datasheet)", R7 A9 (in) "Address input: Provide the row address for ACTIVATE commands and the column address for READ/WRITE commands to select one location out of the memory array in the respective bank. (A10/AP, A12/BC_n, WE_n/A14, CAS_n/A15, (See Datasheet)", R8 A7 (in) "Address input: Provide the row address for ACTIVATE commands and the column address for READ/WRITE commands to select one location out of the memory array in the respective bank. (A10/AP, A12/BC_n, WE_n/A14, CAS_n/A15, (See Datasheet)", T2 A11 (in) "Address input: Provide the row address for ACTIVATE commands and the column address for READ/WRITE commands to select one location out of the memory array in the respective bank. (A10/AP, A12/BC_n, WE_n/A14, CAS_n/A15, (See Datasheet)", T3 PAR (in) "Parity for command and address: This function can be enabled or disabled via the mode register. When enabled, the parity signal covers all command and address inputs, including ACT_n, RAS_n/A16, CAS_n/A15, WE_n/A14, A[17:0], (See Datasheet)", T7 NC "No connect: No internal electrical connection is present.", T8 A13 (in) "Address input: Provide the row address for ACTIVATE commands and the column address for READ/WRITE commands to select one location out of the memory array in the respective bank. (A10/AP, A12/BC_n, WE_n/A14, CAS_n/A15, (See Datasheet)"
part B pins: A1 VDDQ (power) "DQ power supply: 1.2V +/-0.060V.", A2 VSSQ (power) "DQ ground.", A8 VSSQ (power) "DQ ground.", A9 VDDQ (power) "DQ power supply: 1.2V +/-0.060V.", B1 VPP (power) "DRAM activating power supply: 2.5V -0.125V/+0.250V.", B2 VSS (power) "Ground.", B3 VDD (power) "Power supply: 1.2V +/-0.060V.", B9 VDD (power) "Power supply: 1.2V +/-0.060V.", C1 VDDQ (power) "DQ power supply: 1.2V +/-0.060V.", C9 VSSQ (power) "DQ ground.", D1 VDD (power) "Power supply: 1.2V +/-0.060V.", D2 VSSQ (power) "DQ ground.", D8 VSSQ (power) "DQ ground.", D9 VDDQ (power) "DQ power supply: 1.2V +/-0.060V.", E1 VSS (power) "Ground.", E3 VSSQ (power) "DQ ground.", E8 VSSQ (power) "DQ ground.", E9 VSS (power) "Ground.", F1 VSSQ (power) "DQ ground.", F2 VDDQ (power) "DQ power supply: 1.2V +/-0.060V.", F8 VDDQ (power) "DQ power supply: 1.2V +/-0.060V.", G1 VDDQ (power) "DQ power supply: 1.2V +/-0.060V.", G7 VDD (power) "Power supply: 1.2V +/-0.060V.", G8 VSS (power) "Ground.", G9 VDDQ (power) "DQ power supply: 1.2V +/-0.060V.", H1 VSSQ (power) "DQ ground.", H9 VSSQ (power) "DQ ground.", J1 VDD (power) "Power supply: 1.2V +/-0.060V.", J2 VDDQ (power) "DQ power supply: 1.2V +/-0.060V.", J8 VDDQ (power) "DQ power supply: 1.2V +/-0.060V.", J9 VDD (power) "Power supply: 1.2V +/-0.060V.", K1 VSS (power) "Ground.", K9 VSS (power) "Ground.", L1 VDD (power) "Power supply: 1.2V +/-0.060V.", L9 VDD (power) "Power supply: 1.2V +/-0.060V.", M1 VREFCA "Reference voltage for control, command, and address pins.", M9 VSS (power) "Ground.", N1 VSS (power) "Ground.", R1 VDD (power) "Power supply: 1.2V +/-0.060V.", R9 VPP (power) "DRAM activating power supply: 2.5V -0.125V/+0.250V.", T1 VSS (power) "Ground.", T9 VDD (power) "Power supply: 1.2V +/-0.060V."